# Altium schematic symbol library ESP32-C6-MINI-1-H4.SchLib: 1 symbol
Pins are listed as number, name and electrical type; pins without a type are passive.

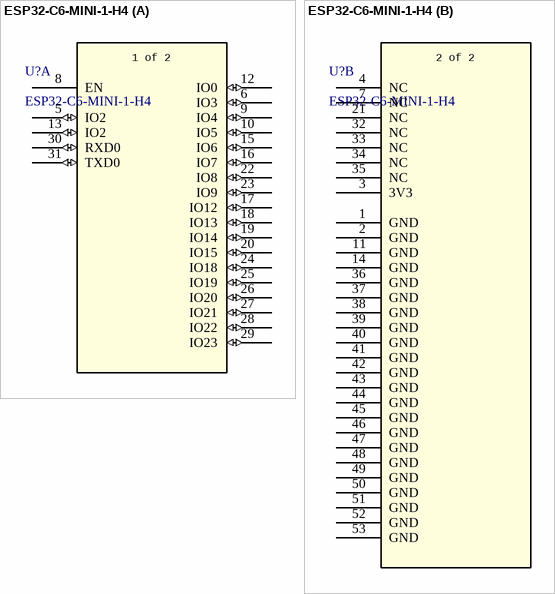
[diagram p0: symbol ESP32-C6-MINI-1-H4]

## ESP32-C6-MINI-1-H4
designator U?
Description; Manufacturer_Name: Espressif Systems; Type: RF Transceiver Modules; Copyright: Copyright (C) 2026 Ultra Librarian. All rights reserved.; Manufacturer_Part_Number: ESP32-C6-MINI-1-H4; RefDes: RefDes
footprint ESP32-C6_EXP
part A pins: 5 IO2 (io), 6 IO3 (io), 8 EN, 9 IO4 (io), 10 IO5 (io), 12 IO0 (io), 13 IO2 (io), 15 IO6 (io), 16 IO7 (io), 17 IO12 (io), 18 IO13 (io), 19 IO14 (io), 20 IO15 (io), 22 IO8 (io), 23 IO9 (io), 24 IO18 (io), 25 IO19 (io), 26 IO20 (io), 27 IO21 (io), 28 IO22 (io), 29 IO23 (io), 30 RXD0 (io), 31 TXD0 (io)
part B pins: 1 GND (power), 2 GND (power), 3 3V3 (power), 4 NC, 7 NC, 11 GND (power), 14 GND (power), 21 NC, 32 NC, 33 NC, 34 NC, 35 NC, 36 GND (power), 37 GND (power), 38 GND (power), 39 GND (power), 40 GND (power), 41 GND (power), 42 GND (power), 43 GND (power), 44 GND (power), 45 GND (power), 46 GND (power), 47 GND (power), 48 GND (power), 49 GND (power), 50 GND (power), 51 GND (power), 52 GND (power), 53 GND (power)
part A text: 1 of 2
part B text: 2 of 2